# Altium schematic symbol library MODULARCON.Schlib: 1 symbol
Pins are listed as number, name and electrical type; pins without a type are passive.

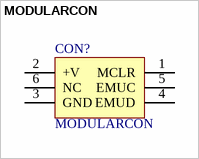
[diagram p0: symbol MODULARCON]

## MODULARCON
designator CON?
Connector, RJ11/RJ25; 4 Manufacturer: Molex/Waldom Electronics Corp; 5 Manufacturer P/N: 43860-0002; 2 Description: Jack, RJ25; 1 Type: Connector, Modular; ComponentLink1Description: Manufacturer Link; ComponentLink1URL: http://www.molex.com/; ComponentLink2Description: Datasheet; ComponentLink2URL: http://www.molex.com/pdm_docs/sd/438600001_sd.pdf; ComponentLink3Description: Supplier Link; ComponentLink3URL: http://search.digikey.com/scripts/DkSearch/dksus.dll?Detail?name=WM5431-ND; Cost: $1.69
footprint Modcon straight
pins: 1 MCLR, 2 +V, 3 GND, 4 EMUD, 5 EMUC, 6 NC